# Altium footprint library Breadboard-Wristwatch.PcbLib: 1 footprints
Each footprint in its own frame and in the unit in brackets; x right, y up, seen from the top. Pads: shape width x height; smd on the part's side, far side on the other; paste and mask are expansions set on the pad; w line width, h text height; cw(c..) or ccw(c..) is an arc to the next point about the centre after c.
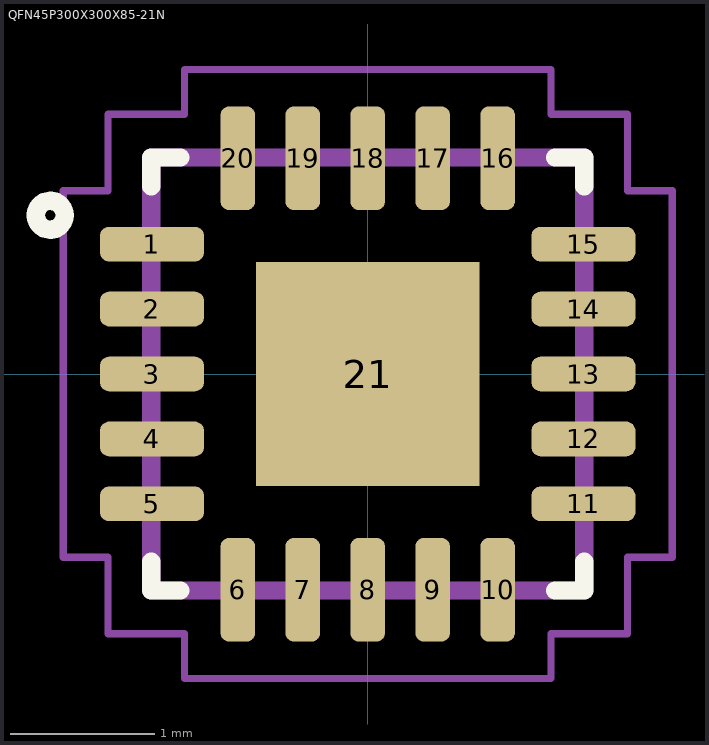
[diagram p0: the footprint, top view; thin cyan lines are the x and y axes]

## QFN45P300X300X85-21N [mm]
pads (21):
  rrect50% 0.72x0.24 smd: 1(-1.495,0.9) 2(-1.495,0.45) 3(-1.495,0) 4(-1.495,-0.45) 5(-1.495,-0.9) 11(1.495,-0.9) 12(1.495,-0.45) 13(1.495,0) 14(1.495,0.45) 15(1.495,0.9)
  rrect50% 0.24x0.72 smd: 6(-0.9,-1.495) 7(-0.45,-1.495) 8(0,-1.495) 9(0.45,-1.495) 10(0.9,-1.495) 16(0.9,1.495) 17(0.45,1.495) 18(0,1.495) 19(-0.45,1.495) 20(-0.9,1.495)
  rect 1.55x1.55 smd paste-2: 21(0,0)
Top Overlay:
  circle w0.127: c-2.2,1.1 r0.1
  lines w0.127: -1.5,-1.3 -1.5,-1.5 -1.3,-1.5 ; -1.5,1.3 -1.5,1.5 -1.3,1.5 ; 1.3,-1.5 1.5,-1.5 1.5,-1.3 ; 1.3,1.5 1.5,1.5 1.5,1.3
Top Paste:
  region: 0.625,0.075 0.075,0.075 0.075,0.625 0.625,0.625
  region: -0.075,-0.626 -0.626,-0.626 -0.626,-0.075 -0.075,-0.075
  region: -0.076,0.075 -0.625,0.075 -0.625,0.626 -0.076,0.626
  region: 0.625,-0.625 0.075,-0.625 0.075,-0.075 0.625,-0.075
Mechanical 13:
  lines w0.127: -1.5,-1.5 1.5,-1.5 1.5,1.5 -1.5,1.5 -1.5,-1.5
Mechanical 15:
  lines w0.05: -2.11,-1.27 -1.8,-1.27 -1.8,-1.8 -1.27,-1.8 -1.27,-2.11 1.27,-2.11 1.27,-1.8 1.8,-1.8 1.8,-1.27 2.11,-1.27 2.11,1.27 1.8,1.27 1.8,1.8 1.27,1.8 1.27,2.11 -1.27,2.11 -1.27,1.8 -1.8,1.8 -1.8,1.27 -2.11,1.27 -2.11,-1.27
3D body "step_temp.STEP": height 0.85, standoff 0, extent -1.5,-1.5 1.5,1.5